# Altium footprint library LM5160DNTT.PcbLib: 4 footprints
Each footprint in its own frame and in the unit in brackets; x right, y up, seen from the top. Pads: shape width x height; smd on the part's side, far side on the other; paste and mask are expansions set on the pad; w line width, h text height; cw(c..) or ccw(c..) is an arc to the next point about the centre after c.
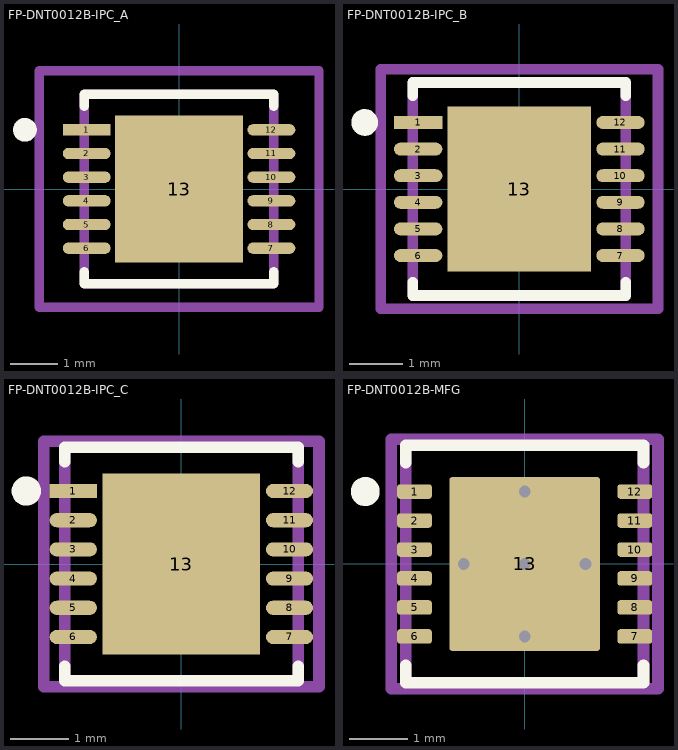
[diagram p0: the footprints below, top view; thin cyan lines are the x and y axes]

## FP-DNT0012B-IPC_A [mm]
pads (13):
  rect 1.01x0.242 smd paste+0 mask+0: 1(-1.951,1.25)
  rrect100% 1.01x0.242 smd paste+0 mask+0: 2(-1.951,0.75) 3(-1.951,0.25) 4(-1.951,-0.25) 5(-1.951,-0.75) 6(-1.951,-1.25) 7(1.951,-1.25) 8(1.951,-0.75) 9(1.951,-0.25) 10(1.951,0.25) 11(1.951,0.75) 12(1.951,1.25)
  rect 2.7x3.1 smd paste-1000 mask+0: 13(0,0)
Top Overlay:
  circle w0.25: c-3.256,1.25 r0.125
  lines w0.2: -2,-1.75 -2,-2 2,-2 2,-1.75 ; -2,1.75 -2,2 2,2 2,1.75
Top Paste:
  rectangle: -0.82,-1.02 0.82,1.02
Top Assembly:
  lines w0.2: -2.956,-2.5 -2.956,2.5 2.956,2.5 2.956,-2.5 -2.956,-2.5
  text ".Designator" at 0,-0.001 h1
Top 3D Body:
  lines w0.2: -2,-2 -2,2 2,2 2,-2 -2,-2
Top Courtyard:
  lines w0.2: -2.956,-2.5 -2.956,2.5 2.956,2.5 2.956,-2.5 -2.956,-2.5
Top Component Center:
  lines w0.1: -0.5,0 0.5,0 ; 0,-0.5 0,0.5
3D body "IC_Texas_Instruments_LDC1612DNTT_eec.STEP": height 0.25, standoff 0, extent -2.956,-2.5 2.956,2.5

## FP-DNT0012B-IPC_B [mm]
pads (13):
  rect 0.91x0.242 smd paste+0 mask+0: 1(-1.901,1.25)
  rrect100% 0.91x0.242 smd paste+0 mask+0: 2(-1.901,0.75) 3(-1.901,0.25) 4(-1.901,-0.25) 5(-1.901,-0.75) 6(-1.901,-1.25) 7(1.901,-1.25) 8(1.901,-0.75) 9(1.901,-0.25) 10(1.901,0.25) 11(1.901,0.75) 12(1.901,1.25)
  rect 2.7x3.1 smd paste-1000 mask+0: 13(0,0)
Top Overlay:
  circle w0.25: c-2.906,1.25 r0.125
  lines w0.2: -2,-1.75 -2,-2 2,-2 2,-1.75 ; -2,1.75 -2,2 2,2 2,1.75
Top Paste:
  rectangle: -0.82,-1.02 0.82,1.02
Top Assembly:
  lines w0.2: -2.606,-2.25 2.606,-2.25 2.606,2.25 -2.606,2.25 -2.606,-2.25
  text ".Designator" at 0,-0.001 h1
Top 3D Body:
  lines w0.2: -2,-2 2,-2 2,2 -2,2 -2,-2
Top Courtyard:
  lines w0.2: -2.606,-2.25 2.606,-2.25 2.606,2.25 -2.606,2.25 -2.606,-2.25
Top Component Center:
  lines w0.1: -0.5,0 0.5,0 ; 0,-0.5 0,0.5
3D body "IC_Texas_Instruments_LDC1612DNTT_eec.STEP": height 0.25, standoff 0, extent -2.606,-2.25 2.606,2.25

## FP-DNT0012B-IPC_C [mm]
pads (13):
  rect 0.81x0.242 smd paste+0 mask+0: 1(-1.851,1.25)
  rrect100% 0.81x0.242 smd paste+0 mask+0: 2(-1.851,0.75) 3(-1.851,0.25) 4(-1.851,-0.25) 5(-1.851,-0.75) 6(-1.851,-1.25) 7(1.851,-1.25) 8(1.851,-0.75) 9(1.851,-0.25) 10(1.851,0.25) 11(1.851,0.75) 12(1.851,1.25)
  rect 2.7x3.1 smd paste-1000 mask+0: 13(0,0)
Top Overlay:
  circle w0.25: c-2.656,1.25 r0.125
  lines w0.2: -2,-1.75 -2,-2 2,-2 2,-1.75 ; -2,1.75 -2,2 2,2 2,1.75
Top Paste:
  rectangle: -0.82,-1.02 0.82,1.02
Top Assembly:
  lines w0.2: -2.356,-2.1 2.356,-2.1 2.356,2.1 -2.356,2.1 -2.356,-2.1
  text ".Designator" at 0,-0.001 h1
Top 3D Body:
  lines w0.2: -2,-2 2,-2 2,2 -2,2 -2,-2
Top Courtyard:
  lines w0.2: -2.356,-2.1 2.356,-2.1 2.356,2.1 -2.356,2.1 -2.356,-2.1
Top Component Center:
  lines w0.1: -0.5,0 0.5,0 ; 0,-0.5 0,0.5
3D body "IC_Texas_Instruments_LDC1612DNTT_eec.STEP": height 0.25, standoff 0, extent -2.356,-2.1 2.356,2.1

## FP-DNT0012B-MFG [mm]
pads (13):
  rrect40% 0.6x0.25 smd paste+0 mask+0: 1(-1.9,1.25) 2(-1.9,0.75) 3(-1.9,0.25) 4(-1.9,-0.25) 5(-1.9,-0.75) 6(-1.9,-1.25) 7(1.9,-1.25) 8(1.9,-0.75) 9(1.9,-0.25) 10(1.9,0.25) 11(1.9,0.75) 12(1.9,1.25)
  rrect4% 2.6x3 smd paste-1000 mask+0: 13(0,0)
via -1.05,0 diameter 0.5 hole 0.2
via 0,0 diameter 0.5 hole 0.2
via 1.05,0 diameter 0.5 hole 0.2
via 0,1.25 diameter 0.5 hole 0.2
via 0,-1.25 diameter 0.5 hole 0.2
Top Overlay:
  circle w0.25: c-2.75,1.25 r0.125
  lines w0.2: -2.05,-1.75 -2.05,-2.05 2.05,-2.05 2.05,-1.75 ; -2.05,1.75 -2.05,2.05 2.05,2.05 2.05,1.75
Top Paste:
  region: -0.105,0.155 -0.105,0.145 -0.113,0.127 -0.127,0.113 -0.145,0.105 -0.155,0.105 -1.205,0.105 -1.215,0.105 -1.233,0.113 -1.247,0.127 -1.255,0.145 -1.255,0.155 -1.255,1.365 -1.255,1.375 -1.247,1.393 -1.233,1.407 -1.215,1.415 -1.205,1.415 -0.155,1.415 -0.145,1.415 -0.127,1.407 -0.113,1.393 -0.105,1.375 -0.105,1.365
  region: 0.155,0.105 0.145,0.105 0.127,0.113 0.113,0.127 0.105,0.145 0.105,0.155 0.105,1.365 0.105,1.375 0.113,1.393 0.127,1.407 0.145,1.415 0.155,1.415 1.205,1.415 1.215,1.415 1.233,1.407 1.247,1.393 1.255,1.375 1.255,1.365 1.255,0.155 1.255,0.145 1.247,0.127 1.233,0.113 1.215,0.105 1.205,0.105
  region: -1.205,-1.415 -1.215,-1.415 -1.233,-1.407 -1.247,-1.393 -1.255,-1.375 -1.255,-1.365 -1.255,-0.155 -1.255,-0.145 -1.247,-0.127 -1.233,-0.113 -1.215,-0.105 -1.205,-0.105 -0.155,-0.105 -0.145,-0.105 -0.127,-0.113 -0.113,-0.127 -0.105,-0.145 -0.105,-0.155 -0.105,-1.365 -0.105,-1.375 -0.113,-1.393 -0.127,-1.407 -0.145,-1.415 -0.155,-1.415
  region: 1.205,-1.415 0.155,-1.415 0.145,-1.415 0.127,-1.407 0.113,-1.393 0.105,-1.375 0.105,-1.365 0.105,-0.155 0.105,-0.145 0.113,-0.127 0.127,-0.113 0.145,-0.105 0.155,-0.105 1.205,-0.105 1.215,-0.105 1.233,-0.113 1.247,-0.127 1.255,-0.145 1.255,-0.155 1.255,-1.365 1.255,-1.375 1.247,-1.393 1.233,-1.407 1.215,-1.415
Top Assembly:
  lines w0.2: -2.3,-2.15 2.3,-2.15 2.3,2.15 -2.3,2.15 -2.3,-2.15
  text ".Designator" at 0,-0.001 h1
Top 3D Body:
  lines w0.2: -2.05,-2.05 2.05,-2.05 2.05,2.05 -2.05,2.05 -2.05,-2.05
Top Courtyard:
  lines w0.2: -2.3,-2.15 2.3,-2.15 2.3,2.15 -2.3,2.15 -2.3,-2.15
Top Component Center:
  lines w0.1: -0.5,0 0.5,0 ; 0,-0.5 0,0.5
3D body "IC_Texas_Instruments_LDC1612DNTT_eec.STEP": height 0.25, standoff 0, extent -2.3,-2.15 2.3,2.15